# Altium schematic symbol library Fuses.SchLib: 1 symbol
Pins are listed as number, name and electrical type; pins without a type are passive.

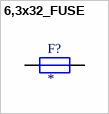
[diagram p0: symbol 6,3x32_FUSE]

## 6,3x32_FUSE
designator F?
footprint 6,3x32_fuse_PCB
pins: 1, 2